# EAGLE library part 6620XX11024_66201011024 (library WR-MPC3)
WR-MPC3 3.00mm Male Header Single Row Vertical - THT - Selective Gold Kind Properties Pitch 3 mm Rows Single Type Vertical Operating Temperature -40 up to +105 °C Durability 75 Mating cycles Material Properties Insulator Material LCP Insulator Color Black Insulator Flammability Rating UL94 V-0 Pin Material Copper Alloy Pin Plating Selective Gold Electrical Properties IR 5 A Working Voltage 250 V (AC) Withstanding Voltage 1500 V (AC) Contact Resistance 10 mΩ Packaging Properties Packaging Tube Certification UL Approval E323964 <https://www.we-online.com/components/media/o727040v209%206620xx11122_Multi-Parts.jpg> Details see: www.we-online.com/components/products/WR-MPC3_3_00MM_MALE_HEADER_SINGLE_ROW_VERTICAL_THT_SELECTIVE_GOLD <www.we-online.com/catalog/WR-MPC3_3_00MM_MALE_HEADER_SINGLE_ROW_VERTICAL_THT_SELECTIVE_GOLD/?utm_source=eagle_model&utm_medium=description_link&utm_campaign=eisos_eagle> Created by Ella Wu 2023-10-12 2023 (C) Würth Elektronik
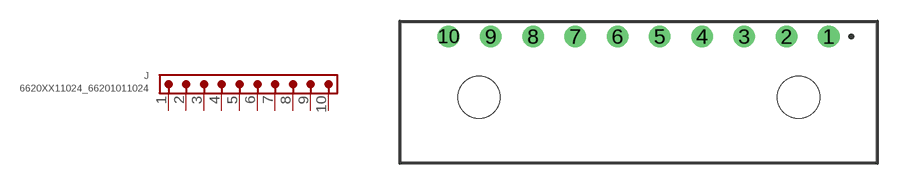
[diagram p128: symbol with the pads of 66201011024; footprint 66201011024]

Designator prefix J

## 6620XX11024_66201011024 (CONTACT-RESISTANCE: 10Ohm; DATASHEET-URL: https://www.we-online.com/redexpert/spec/66201011024?ae; GENDER: Male; IR: 5A; MOUNT: THT; PART-NUMBER: 66201011024; PINS: 10; PITCH: 3mm; ROWS: Single; TOL-R: max.; TYPE: Right Angled; VALUE: 66201011024; WORKING-VOLTAGE: 250V(AC))  [66201011024]
1  1  pas
2  2  pas
3  3  pas
4  4  pas
5  5  pas
6  6  pas
7  7  pas
8  8  pas
9  9  pas
10  10  pas

## Footprint 66201011024 (pad centres in mm)
WR-MPC3 3.00 mm Male Header Single Row Right Angled with Plastic Pegs - THT - Selective Gold 10 Pins
drill 1.02: 1 13.5,3.97; 2 10.5,3.97; 3 7.5,3.97; 4 4.5,3.97; 5 1.5,3.97; 6 -1.5,3.97; 7 -4.5,3.97; 8 -7.5,3.97; 9 -10.5,3.97; 10 -13.5,3.97
hole 3 at 11.36,-0.35
hole 3 at -11.34,-0.35